# EAGLE library part ABRACOM_ARJP11C-MASD-AB-A-FM2 (library Poe)
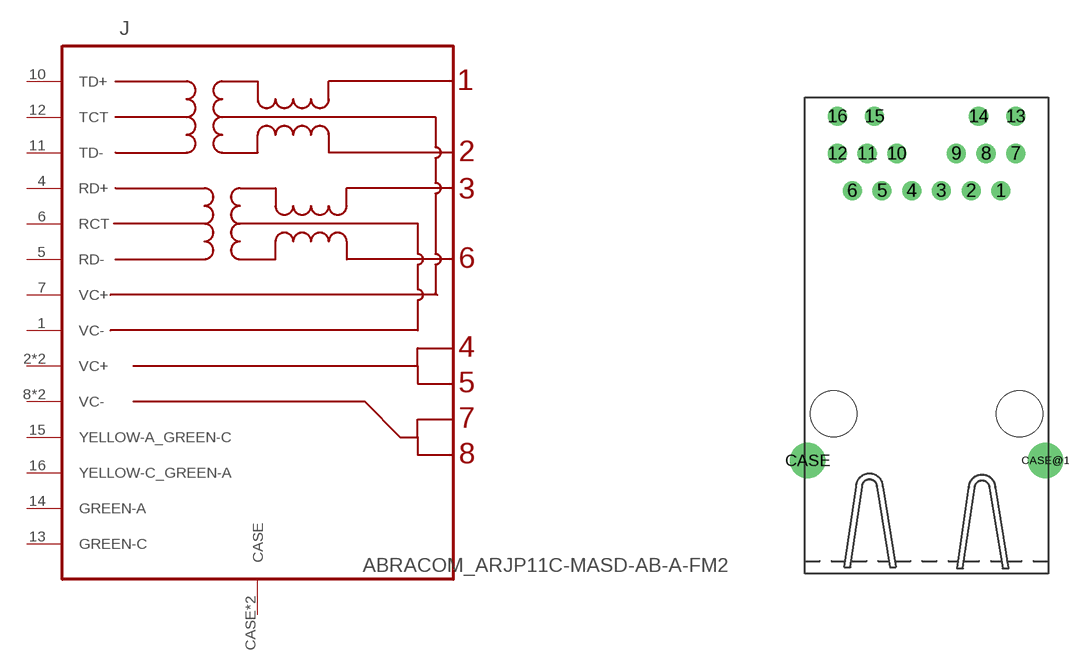
[diagram p13: symbol with the pads of ABRACON-ARJP11C-MAXX; footprint ABRACON-ARJP11C-MAXX]

Designator prefix J

## ABRACOM_ARJP11C-MASD-AB-A-FM2  [ABRACON-ARJP11C-MAXX]
1  VC-
2  VC+
3  VC+
4  RD+
5  RD-
6  RCT
7  VC+
8  VC-
9  VC-
10  TD+
11  TD-
12  TCT
13  GREEN-C
14  GREEN-A
15  YELLOW-A_GREEN-C
16  YELLOW-C_GREEN-A
CASE  CASE
CASE@1  CASE

## Footprint ABRACON-ARJP11C-MAXX (pad centres in mm)
drill 0.8: 1 5.075,9.89; 2 3.045,9.89; 3 1.015,9.89; 4 -1.015,9.89; 5 -3.045,9.89; 6 -5.075,9.89; 7 6.09,12.43; 8 4.06,12.43; 9 2.03,12.43; 10 -2.03,12.43; 11 -4.06,12.43; 12 -6.09,12.43; 13 6.095,14.97; 14 3.555,14.97; 15 -3.555,14.97; 16 -6.095,14.97
drill 1.6: CASE -8.12,-8.53; CASE@1 8.12,-8.53
hole 3.15 at 6.35,-5.35
hole 3.15 at -6.35,-5.35